# EAGLE library part ENC28J60-SP (library 000001)
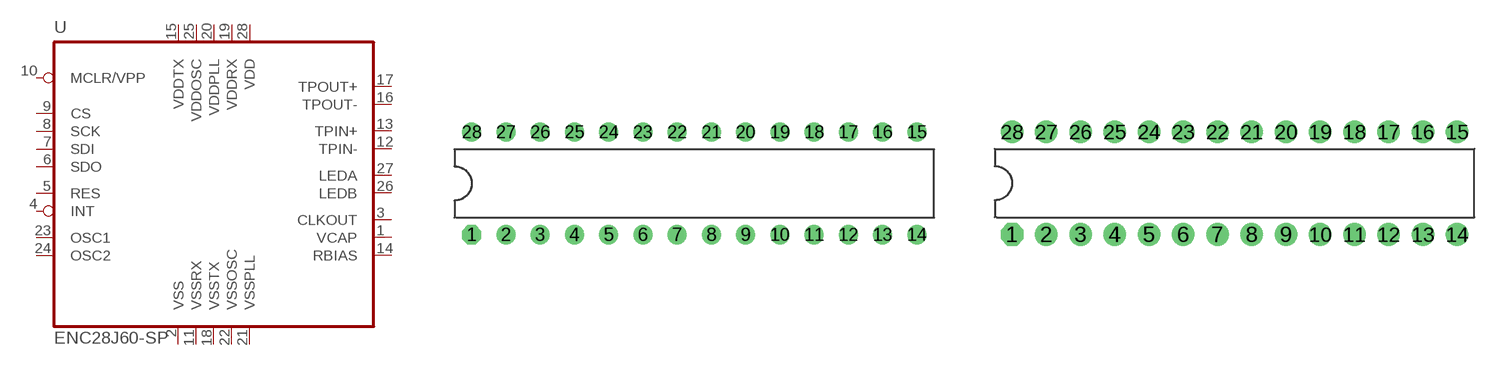
[diagram p37: symbol with the pads of DIL28-3; footprints DIL28-3, DIL28-3_PCB]

Designator prefix -

## ENC28J60-SP  [DIL28-3]
1  VCAP
2  VSS  pwr
3  CLKOUT
4  INT
5  RES
6  SDO
7  SDI
8  SCK
9  CS
10  MCLR/VPP  in
11  VSSRX  pwr
12  TPIN-
13  TPIN+
14  RBIAS
15  VDDTX  pwr
16  TPOUT-
17  TPOUT+
18  VSSTX  pwr
19  VDDRX  pwr
20  VDDPLL  pwr
21  VSSPLL  pwr
22  VSSOSC  pwr
23  OSC1
24  OSC2
25  VDDOSC  pwr
26  LEDB
27  LEDA
28  VDD  pwr

## ENC28J60-SPPCB  [DIL28-3_PCB]
Pads as for DIL28-3

## Footprint DIL28-3 (pad centres in mm)
Dual In Line package type P
drill 0.7 pad 1.422 octagon: 1 -16.51,-3.81
drill 0.7 pad 1.422 round: 2 -13.97,-3.81; 3 -11.43,-3.81; 4 -8.89,-3.81; 5 -6.35,-3.81; 6 -3.81,-3.81; 7 -1.27,-3.81; 8 1.27,-3.81; 9 3.81,-3.81; 10 6.35,-3.81; 11 8.89,-3.81; 12 11.43,-3.81; 13 13.97,-3.81; 14 16.51,-3.81; 15 16.51,3.81; 16 13.97,3.81; 17 11.43,3.81; 18 8.89,3.81; 19 6.35,3.81; 20 3.81,3.81; 21 1.27,3.81; 22 -1.27,3.81; 23 -3.81,3.81; 24 -6.35,3.81; 25 -8.89,3.81; 26 -11.43,3.81; 27 -13.97,3.81; 28 -16.51,3.81

## Footprint DIL28-3_PCB (pad centres in mm)
drill 0.7 pad 1.676 octagon: 1 -16.51,-3.81
drill 0.7 pad 1.676 round: 2 -13.97,-3.81; 3 -11.43,-3.81; 4 -8.89,-3.81; 5 -6.35,-3.81; 6 -3.81,-3.81; 7 -1.27,-3.81; 8 1.27,-3.81; 9 3.81,-3.81; 10 6.35,-3.81; 11 8.89,-3.81; 12 11.43,-3.81; 13 13.97,-3.81; 14 16.51,-3.81; 15 16.51,3.81; 16 13.97,3.81; 17 11.43,3.81; 18 8.89,3.81; 19 6.35,3.81; 20 3.81,3.81; 21 1.27,3.81; 22 -1.27,3.81; 23 -3.81,3.81; 24 -6.35,3.81; 25 -8.89,3.81; 26 -11.43,3.81; 27 -13.97,3.81; 28 -16.51,3.81